# Altium schematic symbol library SCH - POWER - SWITCHMODE - Diodes Inc AP6335x.SchLib: 1 symbol
Pins are listed as number, name and electrical type; pins without a type are passive.

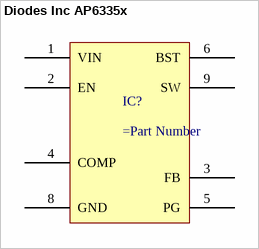
[diagram p0: symbol Diodes Inc AP6335x]

## Diodes Inc AP6335x
designator IC?
pins: 1 VIN, 2 EN, 3 FB, 4 COMP, 5 PG, 6 BST, 8 GND, 9 SW